# Altium footprint library PCBlib.PcbLib: 27 footprints (part 2 of 2)
Each footprint in its own frame and in the unit in brackets; x right, y up, seen from the top. Pads: shape width x height; smd on the part's side, far side on the other; paste and mask are expansions set on the pad; w line width, h text height; cw(c..) or ccw(c..) is an arc to the next point about the centre after c.
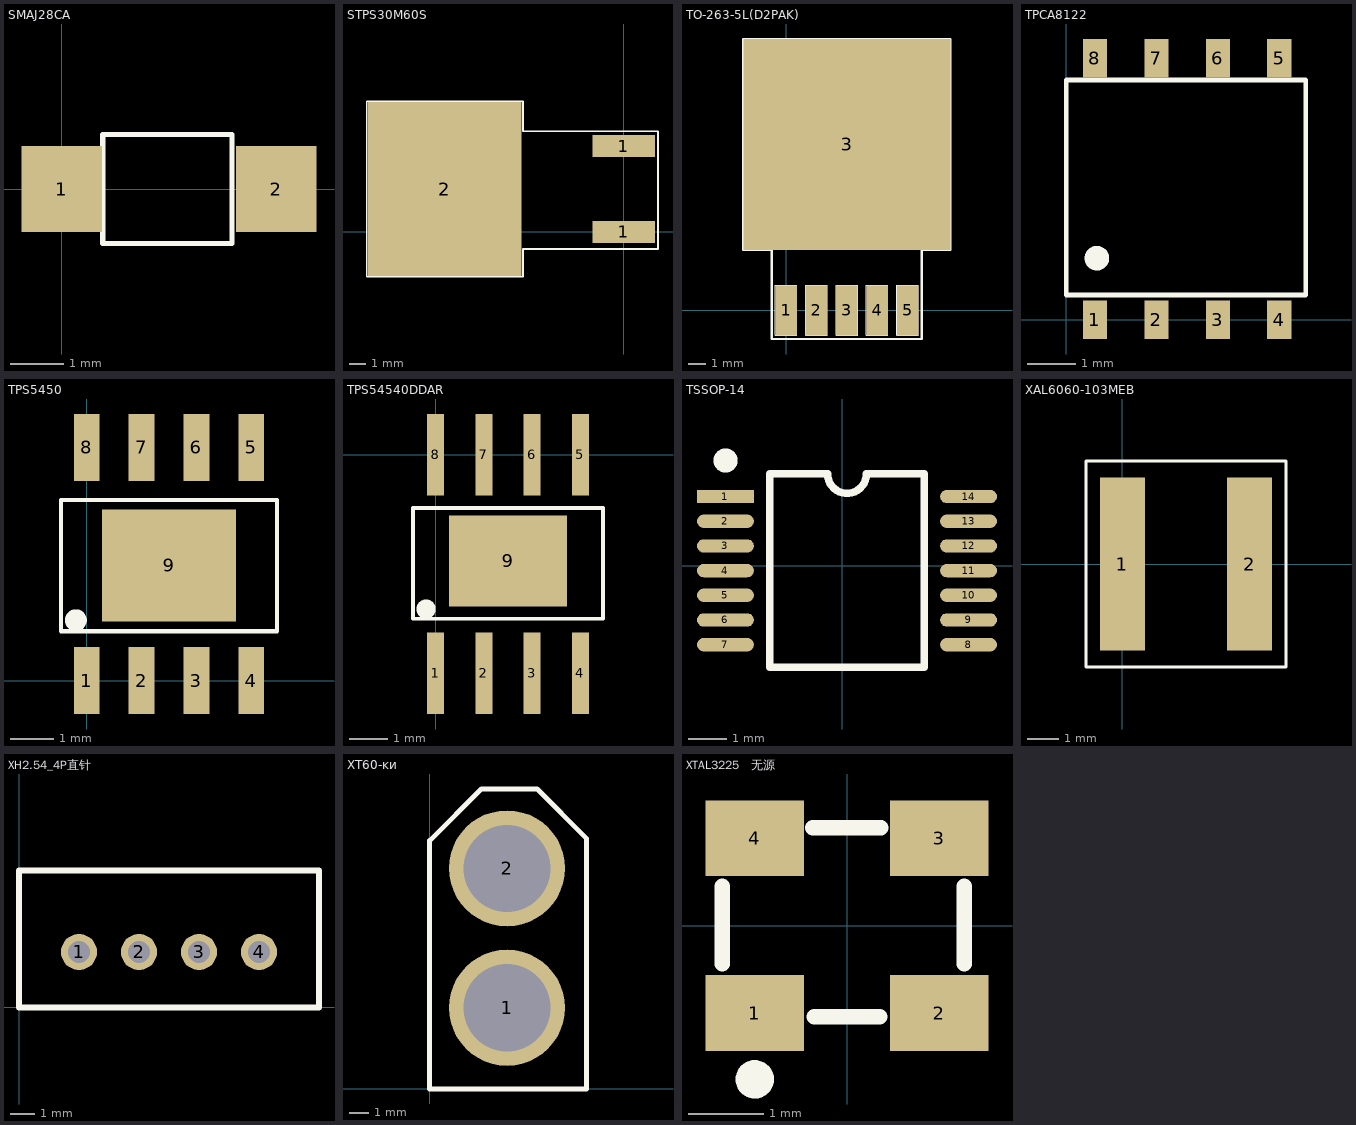
[diagram p1: the footprints below, top view; thin cyan lines are the x and y axes]

## SMAJ28CA [mm]
pads (2):
  rect 1.5x1.6 smd: 1(0,0) 2(4,0)
Top Overlay:
  lines w0.1: 0.762,-1.016 0.762,1.016 3.175,1.016 3.175,-1.016 0.762,-1.016

## STPS30M60S [mm]
pads (3):
  rect 3.7x1.3 smd: 1(0,0) 1(0,5.08)
  rect 9.1x10.3 smd: 2(-10.6,2.54)
Top Overlay:
  lines w0.1: -15.24,-2.667 -15.24,7.747 -5.969,7.747 -5.969,5.969 2.032,5.969 2.032,-1.016 -5.969,-1.016 -5.969,-2.667 -15.24,-2.667

## TO-263-5L(D2PAK) [mm]
pads (6):
  rect 1.203x2.803 smd: 1(0,0) 2(1.7,0) 3(3.4,0) 4(5.1,0) 5(6.8,0)
  rect 11.6x11.8 smd: 3(3.412,9.297)
Top Overlay:
  lines w0.025: -0.6,-1.398 -0.6,1.406 ; -0.6,-1.398 0.604,-1.398 ; -0.6,-1.398 -0.6,1.406 ; -0.6,-1.398 0.604,-1.398 ; -0.6,1.406 0.604,1.406 ; -0.6,1.406 0.604,1.406 ; 0.604,-1.398 0.604,1.406 ; 0.604,-1.398 0.604,1.406 ; 1.1,-1.398 1.1,1.406 ; 1.1,-1.398 2.304,-1.398 ; 1.1,-1.398 1.1,1.406 ; 1.1,-1.398 2.304,-1.398 ; 1.1,1.406 2.304,1.406 ; 1.1,1.406 2.304,1.406 ; 2.304,-1.398 2.304,1.406 ; 2.304,-1.398 2.304,1.406 ; 2.8,-1.398 2.8,1.406 ; 2.8,-1.398 4.004,-1.398 ; 2.8,-1.398 2.8,1.406 ; 2.8,-1.398 4.004,-1.398 ; 2.8,1.406 4.004,1.406 ; 2.8,1.406 4.004,1.406 ; 4.004,-1.398 4.004,1.406 ; 4.004,-1.398 4.004,1.406 ; 4.5,-1.398 4.5,1.406 ; 4.5,-1.398 5.704,-1.398 ; 4.5,-1.398 4.5,1.406 ; 4.5,-1.398 5.704,-1.398 ; 4.5,1.406 5.704,1.406 ; 4.5,1.406 5.704,1.406 ; 5.704,-1.398 5.704,1.406 ; 5.704,-1.398 5.704,1.406 ; 6.2,-1.398 6.2,1.406 ; 6.2,-1.398 7.404,-1.398 ; 6.2,-1.398 6.2,1.406 ; 6.2,-1.398 7.404,-1.398 ; 6.2,1.406 7.404,1.406 ; 6.2,1.406 7.404,1.406 ; 7.404,-1.398 7.404,1.406 ; 7.404,-1.398 7.404,1.406
  lines w0.127: -0.798,15.204 -2.398,15.204 ; -2.398,15.204 -2.398,3.404 -0.798,3.404 -0.798,-1.596 7.602,-1.596 7.602,3.404 9.202,3.404 9.202,15.204 -2.398,15.204
3D body "User Library-D2PAK TO-263-5.STEP": height 4.87, standoff 0, extent -1.651,-0.842 8.509,13.388

## TPCA8122 [mm]
pads (8):
  rect 0.5x0.8 smd: 1(0.595,0) 2(1.865,0) 3(3.135,0) 4(4.405,0) 5(4.405,5.4) 6(3.135,5.4) 7(1.865,5.4) 8(0.595,5.4)
Top Overlay:
  circle w0.254: c0.635,1.27 r0.127
  lines w0.1: 0,0.508 0,4.953 4.953,4.953 4.953,0.508 0,0.508

## TPS5450 [mm]
pads (9):
  rect 0.6x1.55 smd: 1(0,0) 2(1.27,0) 3(2.54,0) 4(3.81,0) 5(3.81,5.4) 6(2.54,5.4) 7(1.27,5.4) 8(0,5.4)
  rect 3.1x2.6 smd: 9(1.905,2.667)
Top Overlay:
  circle w0.254: c-0.254,1.397 r0.127
  lines w0.1: -0.595,1.143 1.905,1.143 4.405,1.143 4.405,4.181 1.905,4.181 -0.595,4.181 -0.595,1.143

## TPS54540DDAR [mm]
pads (9):
  rect 0.45x2.15 smd: 1(0,-5.75) 2(1.27,-5.75) 3(2.54,-5.75) 4(3.81,-5.75) 5(3.81,0) 6(2.54,0) 7(1.27,0) 8(0,0)
  rect 3.1x2.4 smd: 9(1.905,-2.794)
Top Overlay:
  circle w0.254: c-0.254,-4.064 r0.127
  lines w0.1: -0.595,-4.318 1.905,-4.318 4.405,-4.318 4.405,-1.397 1.905,-1.397 -0.595,-1.397 -0.595,-4.318

## TSSOP-14 [mm]
pads (14):
  rect 1.5x0.35 smd: 1(-3.073,1.823)
  oval 1.5x0.35 smd: 2(-3.073,1.173) 3(-3.073,0.523) 4(-3.073,-0.127) 5(-3.073,-0.777) 6(-3.073,-1.427) 7(-3.073,-2.077) 8(3.327,-2.077) 9(3.327,-1.427) 10(3.327,-0.777) 11(3.327,-0.127) 12(3.327,0.523) 13(3.327,1.173) 14(3.327,1.823)
Top Overlay:
  circle w0.381: c-3.073,2.773 r0.127
  lines w0.2: -1.905,-2.677 -1.905,2.423 -0.381,2.423 ccw(c0.127,2.413) 0.635,2.423 2.159,2.423 2.159,-2.677 -1.905,-2.677
3D body "SSOP14.STEP": height 1.25, standoff -0.03, extent -3.075,-2.627 3.329,2.373

## XAL6060-103MEB [mm]
pads (2):
  rect 1.43x5.5 smd: 1(0,0) 2(4.04,0)
Top Overlay:
  lines w0.1: -1.16,-3.28 5.2,-3.28 5.2,3.28 -1.16,3.28 -1.16,-3.28

## XH2.54_4P直针 [mm]
pads (4):
  round 1.5 hole 0.9: 1(2.5,2.31) 2(5,2.31) 3(7.5,2.31) 4(10,2.31)
Top Overlay:
  lines w0.254: 0,0 0,5.7 12.5,5.7 12.5,0 0,0

## XT60-ĸͷ [mm]
pads (2):
  round 6 hole 4.5: 1(4,4.2) 2(4,11.4)
Top Overlay:
  lines w0.254: 0,12.827 2.667,15.494 2.667,15.5 ; 5.08,15.5 5.554,15.5 ; 2.667,15.5 0,12.833 0,0 8.1,0 8.1,12.954 ; 2.667,15.5 5.554,15.5 ; 5.554,15.5 8.1,12.954 ; 5.554,15.5 8.1,12.954

## XTAL3225   无源 [mm]
pads (4):
  rect 1.3x1 smd: 1(-1.219,-1.156) 2(1.219,-1.156) 3(1.219,1.156) 4(-1.219,1.156)
Top Overlay:
  circle w0.254: c-1.219,-2.032 r0.127
  lines w0.203: -1.651,-0.507 -1.651,0.519 ; -0.452,1.294 0.45,1.294 ; -0.432,-1.207 0.432,-1.207 ; 1.549,-0.506 1.549,0.519